# EAGLE library part PCF8583 (library CRD)
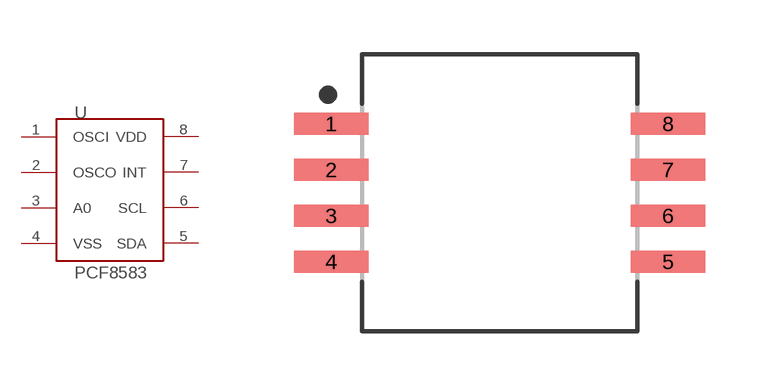
[diagram p4: symbol with the pads of SOIC127P1032X265-8N; footprint SOIC127P1032X265-8N]

Designator prefix U

## PCF8583  [SOIC127P1032X265-8N]
1  OSCI
2  OSCO
3  A0
4  VSS
5  SDA
6  SCL
7  INT
8  VDD

## Footprint SOIC127P1032X265-8N (pad centres in mm)
8-SOIC, 1.27 mm pitch, 10.32 mm span, 7.55 X 7.50 X 2.65 mm body 8-pin SOIC package with 1.27 mm pitch, 10.32 mm span with body size 7.55 X 7.50 X 2.65 mm
smd 2.052 x 0.602: 1 -4.654,1.905; 2 -4.654,0.635; 3 -4.654,-0.635; 4 -4.654,-1.905; 5 4.654,-1.905; 6 4.654,-0.635; 7 4.654,0.635; 8 4.654,1.905